# Altium schematic symbol library antenna.SCHLIB: 9 symbols
Pins are listed as number, name and electrical type; pins without a type are passive.

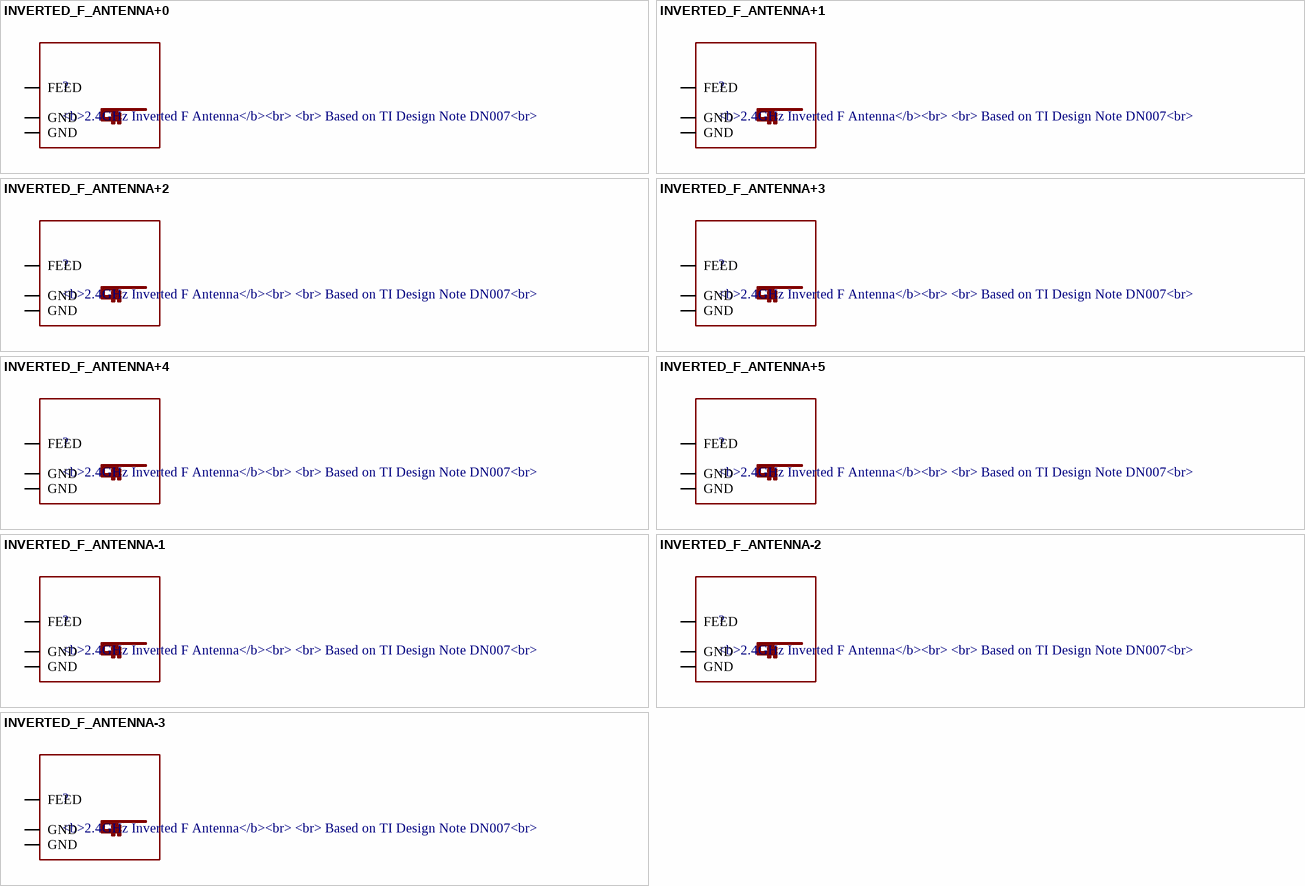
[diagram p0: symbols INVERTED_F_ANTENNA+0 to INVERTED_F_ANTENNA-3]

## INVERTED_F_ANTENNA+0
designator ?, comment <b>2.4GHz Inverted F Antenna</b><br> / <br> / Based on TI Design Note DN007<br>
footprint DN007+0
pins: FEED, GND, GND@1 GND

## INVERTED_F_ANTENNA+1
designator ?, comment <b>2.4GHz Inverted F Antenna</b><br> / <br> / Based on TI Design Note DN007<br>
footprint DN007+1
pins: FEED, GND, GND@1 GND

## INVERTED_F_ANTENNA+2
designator ?, comment <b>2.4GHz Inverted F Antenna</b><br> / <br> / Based on TI Design Note DN007<br>
footprint DN007+2
pins: FEED, GND, GND@1 GND

## INVERTED_F_ANTENNA+3
designator ?, comment <b>2.4GHz Inverted F Antenna</b><br> / <br> / Based on TI Design Note DN007<br>
footprint DN007+3
pins: FEED, GND, GND@1 GND

## INVERTED_F_ANTENNA+4
designator ?, comment <b>2.4GHz Inverted F Antenna</b><br> / <br> / Based on TI Design Note DN007<br>
footprint DN007+4
pins: FEED, GND, GND@1 GND

## INVERTED_F_ANTENNA+5
designator ?, comment <b>2.4GHz Inverted F Antenna</b><br> / <br> / Based on TI Design Note DN007<br>
footprint DN007+5
pins: FEED, GND, GND@1 GND

## INVERTED_F_ANTENNA-1
designator ?, comment <b>2.4GHz Inverted F Antenna</b><br> / <br> / Based on TI Design Note DN007<br>
footprint DN007-1
pins: FEED, GND, GND@1 GND

## INVERTED_F_ANTENNA-2
designator ?, comment <b>2.4GHz Inverted F Antenna</b><br> / <br> / Based on TI Design Note DN007<br>
footprint DN007-2
pins: FEED, GND, GND@1 GND

## INVERTED_F_ANTENNA-3
designator ?, comment <b>2.4GHz Inverted F Antenna</b><br> / <br> / Based on TI Design Note DN007<br>
footprint DN007-3
pins: FEED, GND, GND@1 GND